# EAGLE library part USR-TCP232-E (library DECADE-libraries20151104)
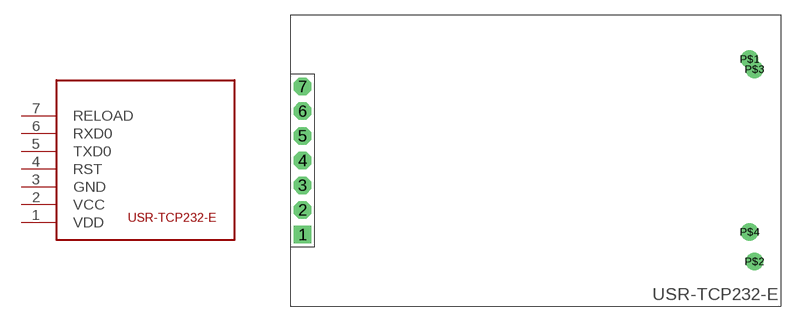
[diagram p123: symbol with the pads of USR-TCP232-E; footprint USR-TCP232-E]

Designator prefix -

## USR-TCP232-E  [USR-TCP232-E]
1  VDD
2  VCC
3  GND
4  RST
5  TXD0
6  RXD0
7  RELOAD

## Footprint USR-TCP232-E (pad centres in mm)
drill 1.2 square: 1 0,0
drill 1.2 octagon: 2 0,2.54; 3 0,5.08; 4 0,7.62; 5 0,10.16; 6 0,12.7; 7 0,15.24
drill 1.2: P$1 46,18.05; P$2 46.5,-2.77; P$3 46.5,17.01; P$4 46,0.27